# Altium schematic symbol library SCH - POWER - LINEAR VREG - TI TPPM0115_D_8.SchLib: 1 symbol
Pins are listed as number, name and electrical type; pins without a type are passive.

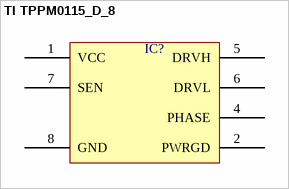
[diagram p0: symbol TI TPPM0115_D_8]

## TI TPPM0115_D_8
designator IC?  (value not drawn)
pins: 1 VCC, 2 PWRGD, 4 PHASE, 5 DRVH, 6 DRVL, 7 SEN, 8 GND